# EAGLE library part 12PIN(L) (library connector)
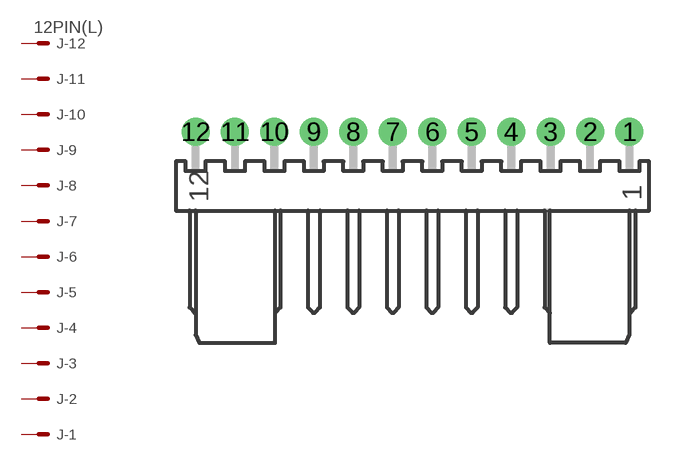
[diagram p2: symbol with the pads of 12PL; footprint 12PL]

Designator prefix J; gates -12=MV -11=M -10=M -9=M -8=M -7=M -6=M -5=M -4=M -3=M -2=M -1=M

## 12PIN(L)  [12PL]
1  -1:S  pas
2  -2:S  pas
3  -3:S  pas
4  -4:S  pas
5  -5:S  pas
6  -6:S  pas
7  -7:S  pas
8  -8:S  pas
9  -9:S  pas
10  -10:S  pas
11  -11:S  pas
12  -12:S  pas

## Footprint 12PL (pad centres in mm)
drill 1 pad 1.8: 1 15.24,3.81; 2 12.7,3.81; 3 10.16,3.81; 4 7.62,3.81; 5 5.08,3.81; 6 2.54,3.81; 7 0,3.81; 8 -2.54,3.81; 9 -5.08,3.81; 10 -7.62,3.81; 11 -10.16,3.81; 12 -12.7,3.81